# Altium footprint library SOT.PcbLib: 6 footprints
Each footprint in its own frame and in the unit in brackets; x right, y up, seen from the top. Pads: shape width x height; smd on the part's side, far side on the other; paste and mask are expansions set on the pad; w line width, h text height; cw(c..) or ccw(c..) is an arc to the next point about the centre after c.
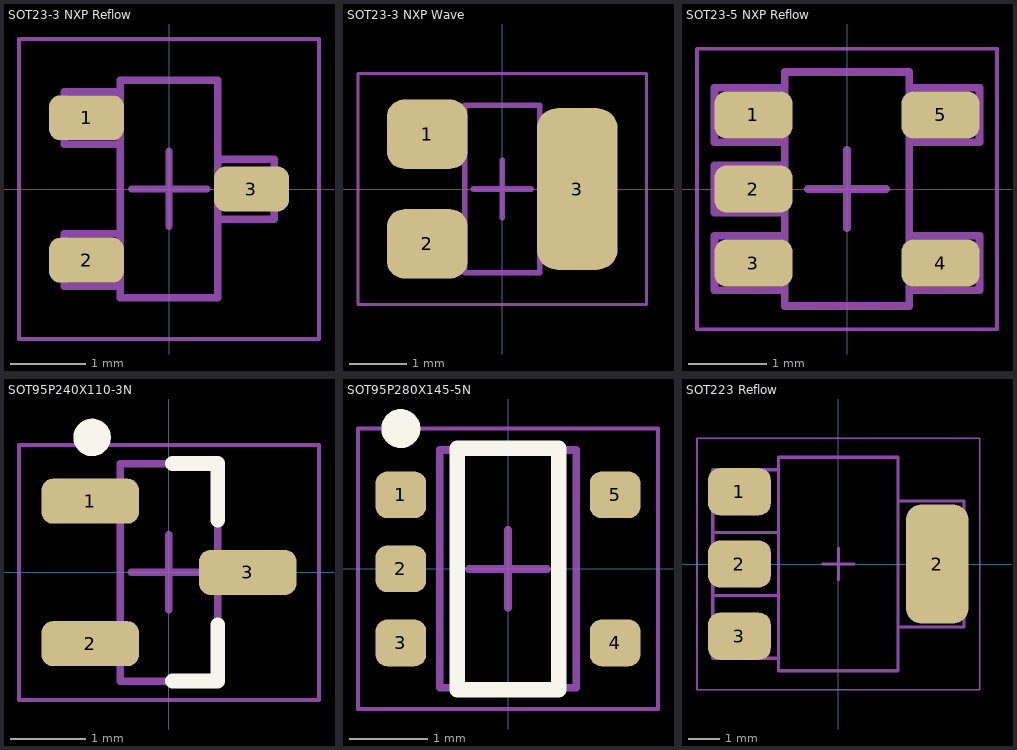
[diagram p0: the footprints below, top view; thin cyan lines are the x and y axes]

## SOT23-3 NXP Reflow [mm]
height 1.1
pads (3):
  rrect50% 1x0.6 smd: 1(-1.1,0.95) 2(-1.1,-0.95) 3(1.1,0)
Mechanical 4:
  text ".Designator" at -2.75,0 h1
Mechanical 13:
  lines w0.1: -0.65,-1.3 -1.4,-1.3 -1.4,-0.6 -0.65,-0.6 ; -0.65,0.6 -1.4,0.6 -1.4,1.3 -0.65,1.3 ; 0.65,-0.4 1.4,-0.4 1.4,0.4 0.65,0.4 ; -0.65,-1.45 0.65,-1.45 0.65,1.45 -0.65,1.45 -0.65,-1.45
Mechanical 15:
  lines w0.05: -2,-2 2,-2 2,2 -2,2 -2,-2
  lines w0.1: -0.5,0 0.5,0 ; 0,-0.5 0,0.5
3D body: height 0.97, standoff -0.01, extent -1.257,-1.461 1.257,1.46

## SOT23-3 NXP Wave [mm]
height 1.1
pads (3):
  rrect50% 1.4x1.2 smd: 1(-1.3,0.95) 2(-1.3,-0.95)
  rrect50% 1.4x2.8 smd: 3(1.3,0)
Mechanical 4:
  text ".Designator" at -2.25,0 h1
Mechanical 13:
  lines w0.1: -0.65,-1.3 -1.4,-1.3 -1.4,-0.6 -0.65,-0.6 ; -0.65,0.6 -1.4,0.6 -1.4,1.3 -0.65,1.3 ; 0.65,-0.4 1.4,-0.4 1.4,0.4 0.65,0.4 ; -0.65,-1.45 -0.65,1.45 0.65,1.45 0.65,-1.45 -0.65,-1.45
Mechanical 15:
  lines w0.05: -2.5,-2 -2.5,2 2.5,2 2.5,-2 -2.5,-2
  lines w0.1: -0.5,0 0.5,0 ; 0,-0.5 0,0.5
3D body: height 0.97, standoff -0.01, extent -1.257,-1.461 1.257,1.46

## SOT23-5 NXP Reflow [mm]
height 1.45
pads (5):
  rrect50% 1x0.6 smd: 1(-1.2,0.95) 2(-1.2,0) 3(-1.2,-0.95) 4(1.2,-0.95) 5(1.2,0.95)
Mechanical 4:
  text ".Designator" at -2.25,0 h1
Mechanical 13:
  lines w0.1: -0.8,-1.3 -1.7,-1.3 -1.7,-0.6 -0.8,-0.6 ; -0.8,-0.3 -1.7,-0.3 -1.7,0.3 -0.8,0.3 ; -0.8,0.6 -1.7,0.6 -1.7,1.3 -0.8,1.3 ; 0.8,-1.3 1.7,-1.3 1.7,-0.6 0.8,-0.6 ; 0.8,0.6 1.7,0.6 1.7,1.3 0.8,1.3 ; -0.8,-1.5 0.8,-1.5 0.8,1.5 -0.8,1.5 -0.8,-1.5
Mechanical 15:
  lines w0.05: -1.925,-1.8 1.925,-1.8 1.925,1.8 -1.925,1.8 -1.925,-1.8
  lines w0.1: -0.5,0 0.5,0 ; 0,-0.5 0,0.5
3D body: height 1.2, standoff 0, extent -1.4,-1.45 1.4,1.45

## SOT95P240X110-3N [mm] "SOT23, 3-Leads, Body 2.90x2.40mm, Pitch 0.95mm, IPC Medium Density"
height 1.1
pads (3):
  rrect50% 1.3x0.6 smd: 1(-1.05,0.95) 2(-1.05,-0.95) 3(1.05,0)
Top Overlay:
  circle w0.25: c-1.025,1.8 r0.125
  lines w0.2: 0.05,-1.45 0.65,-1.45 0.65,-0.7 ; 0.05,1.45 0.65,1.45 0.65,0.7
Mechanical 4:
  text ".Designator" at -2.25,0 h1
Mechanical 13:
  lines w0.1: -0.65,-1.45 0.65,-1.45 0.65,1.45 -0.65,1.45 -0.65,-1.45
Mechanical 15:
  lines w0.05: -2,-1.7 2,-1.7 2,1.7 -2,1.7 -2,-1.7
  lines w0.1: -0.5,0 0.5,0 ; 0,-0.5 0,0.5
3D body: height 1.1, standoff 0, extent -0.65,-1.45 0.65,1.45

## SOT95P280X145-5N [mm] "SOT23, 5-Leads, Body 2.90x2.80mm, Pitch 0.95mm, IPC Medium Density"
height 1.45
pads (5):
  rrect50% 0.65x0.6 smd: 1(-1.375,0.95) 2(-1.375,0) 3(-1.375,-0.95) 4(1.375,-0.95) 5(1.375,0.95)
Top Overlay:
  circle w0.25: c-1.375,1.8 r0.125
  lines w0.2: -0.65,-1.55 0.65,-1.55 0.65,1.55 -0.65,1.55 -0.65,-1.55
Mechanical 4:
  text ".Designator" at -2.25,0 h1
Mechanical 13:
  lines w0.1: -0.875,-1.525 -0.875,1.525 0.875,1.525 0.875,-1.525 -0.875,-1.525
Mechanical 15:
  lines w0.05: -1.925,-1.8 -1.925,1.8 1.925,1.8 1.925,-1.8 -1.925,-1.8
  lines w0.1: -0.5,0 0.5,0 ; 0,-0.5 0,0.5
3D body: height 1.45, standoff 0.15, extent -0.875,-1.525 0.875,1.525

## SOT223 Reflow [mm]
height 1.45
pads (4):
  rrect50% 2x1.5 smd: 1(-3.15,2.3) 2(-3.15,0) 3(-3.15,-2.3)
  rrect50% 2x3.8 smd: 2(3.15,0)
Mechanical 4:
  text ".Designator" at -2.25,0 h1
Mechanical 13:
  lines w0.1: -4,-1 -1.9,-1 ; -4,1 -1.9,1 ; -1.9,-3 -4,-3 -4,3 -1.9,3 ; 1.9,-2 4,-2 4,2 1.9,2 ; -1.9,-3.4 1.9,-3.4 1.9,3.4 -1.9,3.4 -1.9,-3.4
Mechanical 15:
  lines w0.05: -4.5,-4 -4.5,4 4.5,4 4.5,-4 -4.5,-4
  lines w0.1: -0.5,0 0.5,0 ; 0,-0.5 0,0.5
3D body: height 1.68, standoff 0, extent -3.5,-3.25 3.5,3.25